# Altium schematic symbol library TQMP2020_tq.SchLib: 1 symbol
Pins are listed as number, name and electrical type; pins without a type are passive.

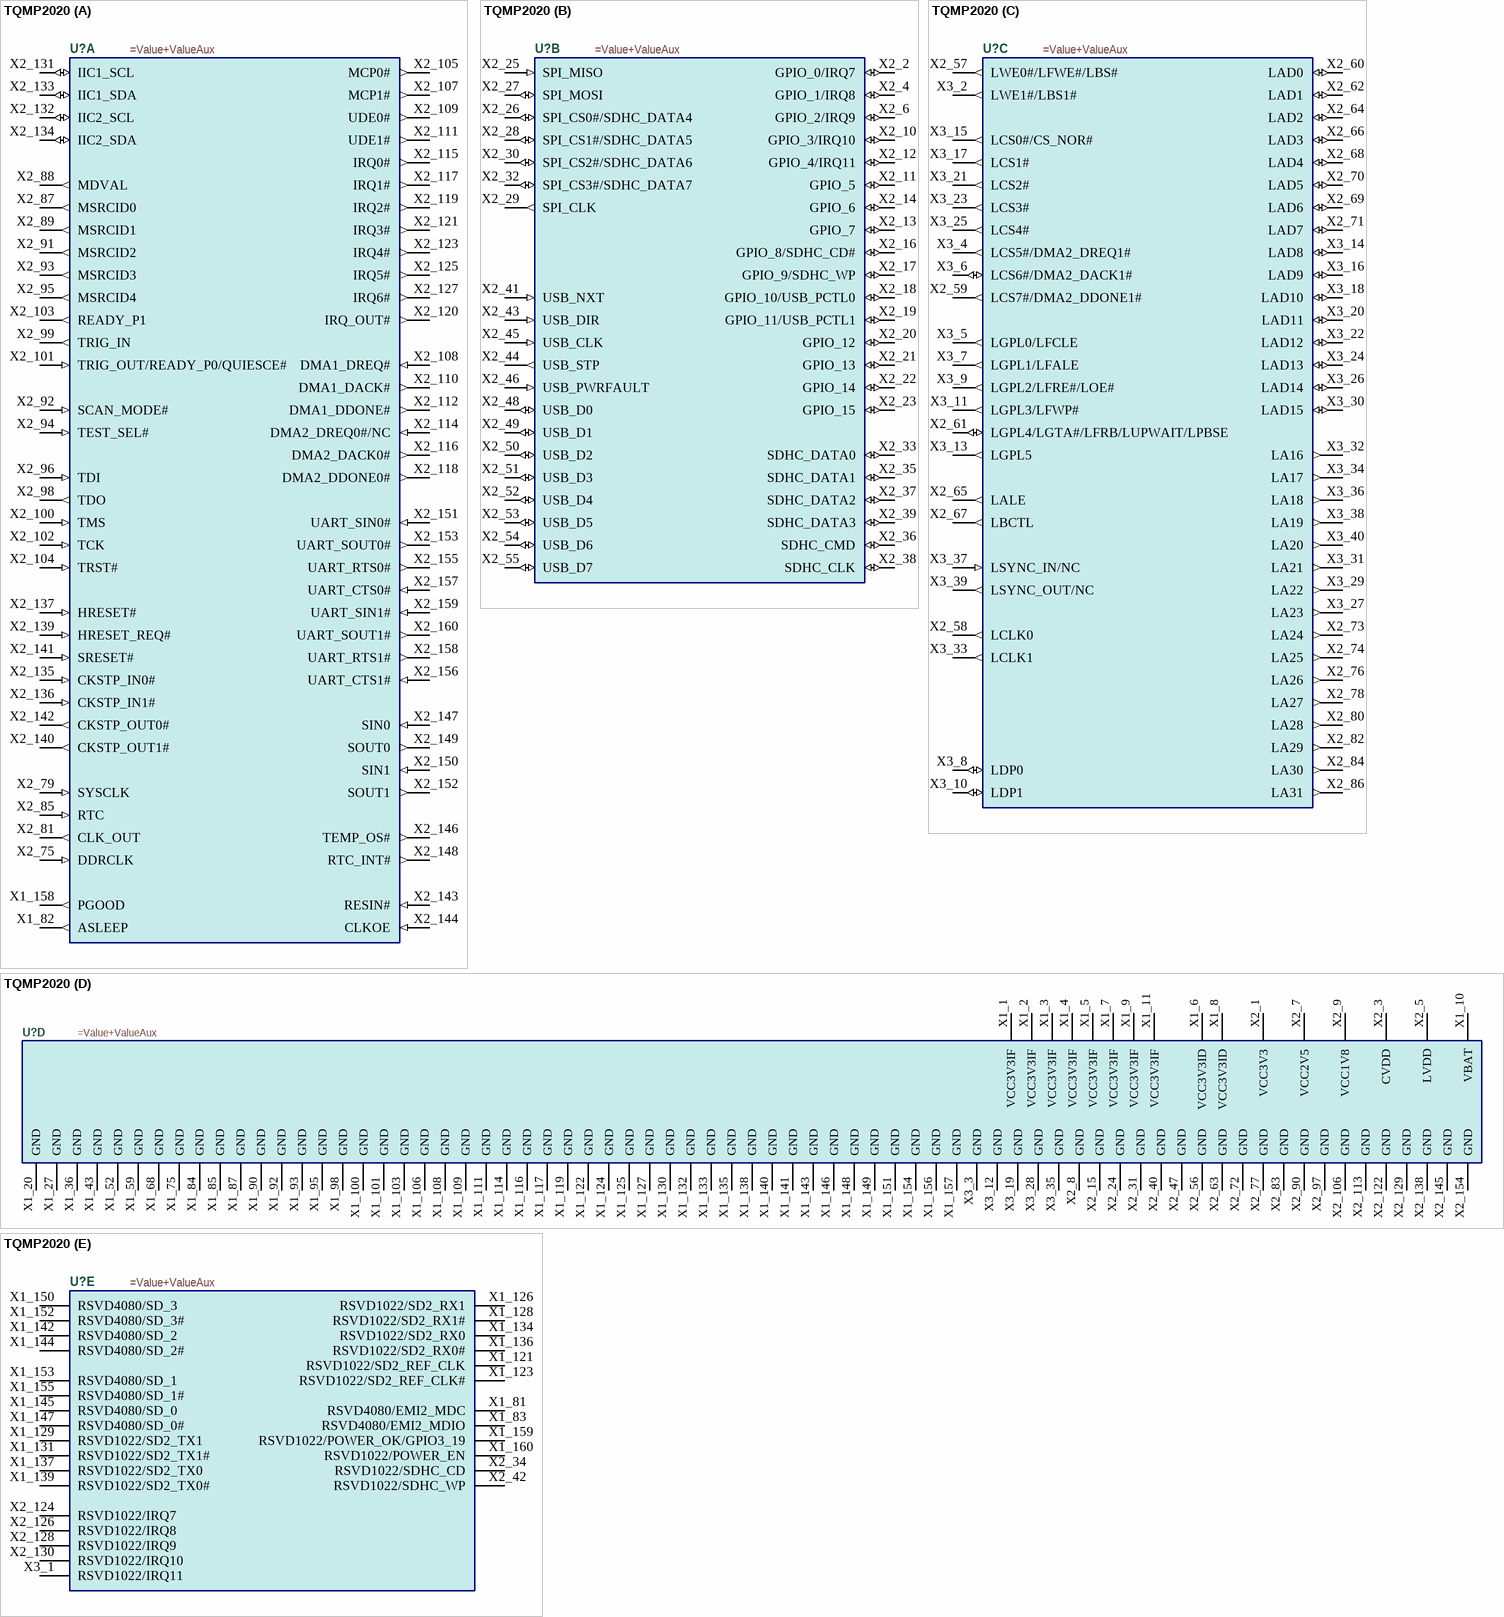
[diagram p0: symbol TQMP2020]

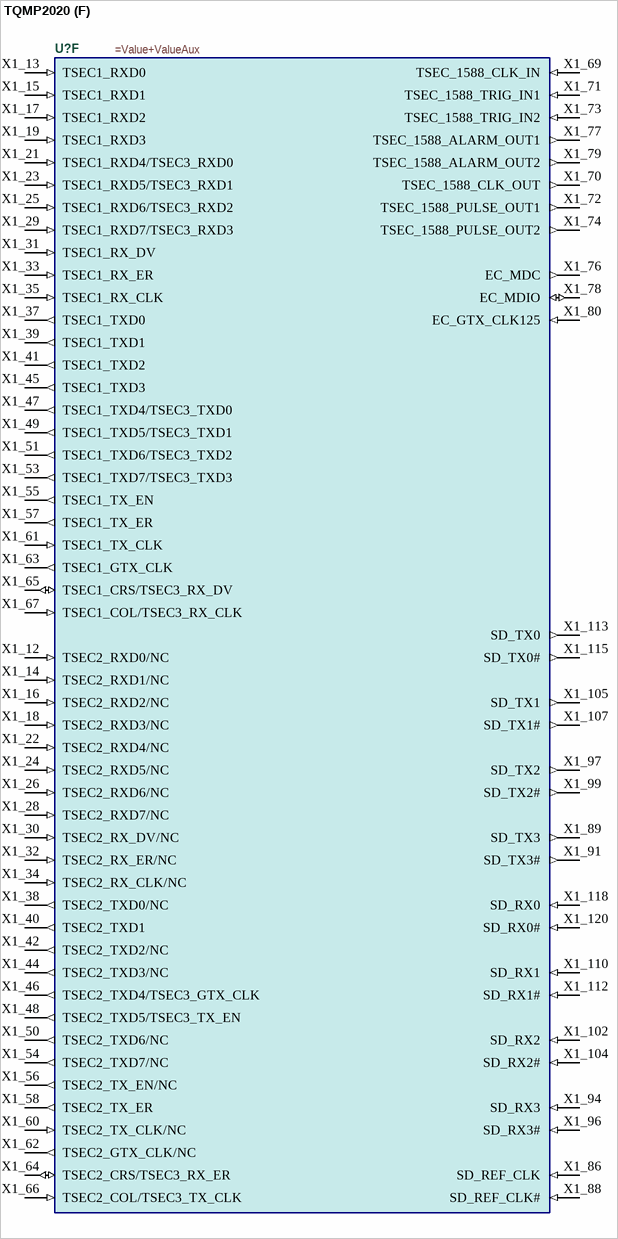
[diagram p1: symbol TQMP2020]

## TQMP2020
designator U?
=Description
part A pins: X1_82 ASLEEP (out), X1_158 PGOOD (out), X2_75 DDRCLK (in), X2_79 SYSCLK (in), X2_81 CLK_OUT (out), X2_85 RTC (in), X2_87 MSRCID0 (out), X2_88 MDVAL (out), X2_89 MSRCID1 (out), X2_91 MSRCID2 (out), X2_92 SCAN_MODE# (in), X2_93 MSRCID3 (out), X2_94 TEST_SEL# (in), X2_95 MSRCID4 (out), X2_96 TDI (in), X2_98 TDO (out), X2_99 TRIG_IN (out), X2_100 TMS (in), X2_101 TRIG_OUT/READY_P0/QUIESCE# (in), X2_102 TCK (in), X2_103 READY_P1 (out), X2_104 TRST# (in), X2_105 MCP0# (out), X2_107 MCP1# (out), X2_108 DMA1_DREQ# (in), X2_109 UDE0# (out), X2_110 DMA1_DACK# (out), X2_111 UDE1# (out), X2_112 DMA1_DDONE# (out), X2_114 DMA2_DREQ0#/NC (in), X2_115 IRQ0# (out), X2_116 DMA2_DACK0# (out), X2_117 IRQ1# (out), X2_118 DMA2_DDONE0# (out), X2_119 IRQ2# (out), X2_120 IRQ_OUT# (out), X2_121 IRQ3# (out), X2_123 IRQ4# (out), X2_125 IRQ5# (out), X2_127 IRQ6# (out), X2_131 IIC1_SCL (io), X2_132 IIC2_SCL (io), X2_133 IIC1_SDA (io), X2_134 IIC2_SDA (io), X2_135 CKSTP_IN0# (in), X2_136 CKSTP_IN1# (in), X2_137 HRESET# (in), X2_139 HRESET_REQ# (in), X2_140 CKSTP_OUT1# (out), X2_141 SRESET# (in), X2_142 CKSTP_OUT0# (out), X2_143 RESIN# (in), X2_144 CLKOE (in), X2_146 TEMP_OS# (out), X2_147 SIN0 (in), X2_148 RTC_INT# (out), X2_149 SOUT0 (out), X2_150 SIN1 (in), X2_151 UART_SIN0# (in), X2_152 SOUT1 (out), X2_153 UART_SOUT0# (out), X2_155 UART_RTS0# (out), X2_156 UART_CTS1# (in), X2_157 UART_CTS0# (in), X2_158 UART_RTS1# (out), X2_159 UART_SIN1# (in), X2_160 UART_SOUT1# (out)
part B pins: X2_2 GPIO_0/IRQ7 (io), X2_4 GPIO_1/IRQ8 (io), X2_6 GPIO_2/IRQ9 (io), X2_10 GPIO_3/IRQ10 (io), X2_11 GPIO_5 (io), X2_12 GPIO_4/IRQ11 (io), X2_13 GPIO_7 (io), X2_14 GPIO_6 (io), X2_16 GPIO_8/SDHC_CD# (io), X2_17 GPIO_9/SDHC_WP (io), X2_18 GPIO_10/USB_PCTL0 (io), X2_19 GPIO_11/USB_PCTL1 (io), X2_20 GPIO_12 (io), X2_21 GPIO_13 (io), X2_22 GPIO_14 (io), X2_23 GPIO_15 (io), X2_25 SPI_MISO (in), X2_26 SPI_CS0#/SDHC_DATA4 (io), X2_27 SPI_MOSI (io), X2_28 SPI_CS1#/SDHC_DATA5 (io), X2_29 SPI_CLK (out), X2_30 SPI_CS2#/SDHC_DATA6 (io), X2_32 SPI_CS3#/SDHC_DATA7 (io), X2_33 SDHC_DATA0 (io), X2_35 SDHC_DATA1 (io), X2_36 SDHC_CMD (io), X2_37 SDHC_DATA2 (io), X2_38 SDHC_CLK (io), X2_39 SDHC_DATA3 (io), X2_41 USB_NXT (in), X2_43 USB_DIR (in), X2_44 USB_STP (out), X2_45 USB_CLK (in), X2_46 USB_PWRFAULT (in), X2_48 USB_D0 (io), X2_49 USB_D1 (io), X2_50 USB_D2 (io), X2_51 USB_D3 (io), X2_52 USB_D4 (io), X2_53 USB_D5 (io), X2_54 USB_D6 (io), X2_55 USB_D7 (io)
part C pins: X2_57 LWE0#/LFWE#/LBS# (out), X2_58 LCLK0 (out), X2_59 LCS7#/DMA2_DDONE1# (out), X2_60 LAD0 (io), X2_61 LGPL4/LGTA#/LFRB/LUPWAIT/LPBSE (io), X2_62 LAD1 (io), X2_64 LAD2 (io), X2_65 LALE (out), X2_66 LAD3 (io), X2_67 LBCTL (out), X2_68 LAD4 (io), X2_69 LAD6 (io), X2_70 LAD5 (io), X2_71 LAD7 (io), X2_73 LA24 (out), X2_74 LA25 (out), X2_76 LA26 (out), X2_78 LA27 (out), X2_80 LA28 (out), X2_82 LA29 (out), X2_84 LA30 (out), X2_86 LA31 (out), X3_2 LWE1#/LBS1# (out), X3_4 LCS5#/DMA2_DREQ1# (out), X3_5 LGPL0/LFCLE (out), X3_6 LCS6#/DMA2_DACK1# (io), X3_7 LGPL1/LFALE (out), X3_8 LDP0 (io), X3_9 LGPL2/LFRE#/LOE# (out), X3_10 LDP1 (io), X3_11 LGPL3/LFWP# (out), X3_13 LGPL5 (out), X3_14 LAD8 (io), X3_15 LCS0#/CS_NOR# (out), X3_16 LAD9 (io), X3_17 LCS1# (out), X3_18 LAD10 (io), X3_20 LAD11 (io), X3_21 LCS2# (out), X3_22 LAD12 (io), X3_23 LCS3# (out), X3_24 LAD13 (io), X3_25 LCS4# (out), X3_26 LAD14 (io), X3_27 LA23 (out), X3_29 LA22 (out), X3_30 LAD15 (io), X3_31 LA21 (out), X3_32 LA16 (out), X3_33 LCLK1 (out), X3_34 LA17 (out), X3_36 LA18 (out), X3_37 LSYNC_IN/NC (in), X3_38 LA19 (out), X3_39 LSYNC_OUT/NC (out), X3_40 LA20 (out)
part D pins: X1_1 VCC3V3IF (power), X1_2 VCC3V3IF (power), X1_3 VCC3V3IF (power), X1_4 VCC3V3IF (power), X1_5 VCC3V3IF (power), X1_6 VCC3V3ID (power), X1_7 VCC3V3IF (power), X1_8 VCC3V3ID (power), X1_9 VCC3V3IF (power), X1_10 VBAT (power), X1_11 VCC3V3IF (power), X1_20 GND (power), X1_27 GND (power), X1_36 GND (power), X1_43 GND (power), X1_52 GND (power), X1_59 GND (power), X1_68 GND (power), X1_75 GND (power), X1_84 GND (power), X1_85 GND (power), X1_87 GND (power), X1_90 GND (power), X1_92 GND (power), X1_93 GND (power), X1_95 GND (power), X1_98 GND (power), X1_100 GND (power), X1_101 GND (power), X1_103 GND (power), X1_106 GND (power), X1_108 GND (power), X1_109 GND (power), X1_111 GND (power), X1_114 GND (power), X1_116 GND (power), X1_117 GND (power), X1_119 GND (power), X1_122 GND (power), X1_124 GND (power), X1_125 GND (power), X1_127 GND (power), X1_130 GND (power), X1_132 GND (power), X1_133 GND (power), X1_135 GND (power), X1_138 GND (power), X1_140 GND (power), X1_141 GND (power), X1_143 GND (power), X1_146 GND (power), X1_148 GND (power), X1_149 GND (power), X1_151 GND (power), X1_154 GND (power), X1_156 GND (power), X1_157 GND (power), X2_1 VCC3V3 (power), X2_3 CVDD (power), X2_5 LVDD (power), X2_7 VCC2V5 (power), X2_8 GND (power), X2_9 VCC1V8 (power), X2_15 GND (power), X2_24 GND (power), X2_31 GND (power), X2_40 GND (power), X2_47 GND (power), X2_56 GND (power), X2_63 GND (power), X2_72 GND (power), X2_77 GND (power), X2_83 GND (power), X2_90 GND (power), X2_97 GND (power), X2_106 GND (power), X2_113 GND (power), X2_122 GND (power), X2_129 GND (power), X2_138 GND (power), X2_145 GND (power), X2_154 GND (power), X3_3 GND (power), X3_12 GND (power), X3_19 GND (power), X3_28 GND (power), X3_35 GND (power)
part E pins: X1_81 RSVD4080/EMI2_MDC, X1_83 RSVD4080/EMI2_MDIO, X1_121 RSVD1022/SD2_REF_CLK, X1_123 RSVD1022/SD2_REF_CLK#, X1_126 RSVD1022/SD2_RX1, X1_128 RSVD1022/SD2_RX1#, X1_129 RSVD1022/SD2_TX1, X1_131 RSVD1022/SD2_TX1#, X1_134 RSVD1022/SD2_RX0, X1_136 RSVD1022/SD2_RX0#, X1_137 RSVD1022/SD2_TX0, X1_139 RSVD1022/SD2_TX0#, X1_142 RSVD4080/SD_2, X1_144 RSVD4080/SD_2#, X1_145 RSVD4080/SD_0, X1_147 RSVD4080/SD_0#, X1_150 RSVD4080/SD_3, X1_152 RSVD4080/SD_3#, X1_153 RSVD4080/SD_1, X1_155 RSVD4080/SD_1#, X1_159 RSVD1022/POWER_OK/GPIO3_19, X1_160 RSVD1022/POWER_EN, X2_34 RSVD1022/SDHC_CD, X2_42 RSVD1022/SDHC_WP, X2_124 RSVD1022/IRQ7, X2_126 RSVD1022/IRQ8, X2_128 RSVD1022/IRQ9, X2_130 RSVD1022/IRQ10, X3_1 RSVD1022/IRQ11
part F pins: X1_12 TSEC2_RXD0/NC (in), X1_13 TSEC1_RXD0 (in), X1_14 TSEC2_RXD1/NC (in), X1_15 TSEC1_RXD1 (in), X1_16 TSEC2_RXD2/NC (in), X1_17 TSEC1_RXD2 (in), X1_18 TSEC2_RXD3/NC (in), X1_19 TSEC1_RXD3 (in), X1_21 TSEC1_RXD4/TSEC3_RXD0 (in), X1_22 TSEC2_RXD4/NC (in), X1_23 TSEC1_RXD5/TSEC3_RXD1 (in), X1_24 TSEC2_RXD5/NC (in), X1_25 TSEC1_RXD6/TSEC3_RXD2 (in), X1_26 TSEC2_RXD6/NC (in), X1_28 TSEC2_RXD7/NC (in), X1_29 TSEC1_RXD7/TSEC3_RXD3 (in), X1_30 TSEC2_RX_DV/NC (in), X1_31 TSEC1_RX_DV (in), X1_32 TSEC2_RX_ER/NC (in), X1_33 TSEC1_RX_ER (in), X1_34 TSEC2_RX_CLK/NC (in), X1_35 TSEC1_RX_CLK (in), X1_37 TSEC1_TXD0 (out), X1_38 TSEC2_TXD0/NC (out), X1_39 TSEC1_TXD1 (out), X1_40 TSEC2_TXD1 (out), X1_41 TSEC1_TXD2 (out), X1_42 TSEC2_TXD2/NC (out), X1_44 TSEC2_TXD3/NC (out), X1_45 TSEC1_TXD3 (out), X1_46 TSEC2_TXD4/TSEC3_GTX_CLK (out), X1_47 TSEC1_TXD4/TSEC3_TXD0 (out), X1_48 TSEC2_TXD5/TSEC3_TX_EN (out), X1_49 TSEC1_TXD5/TSEC3_TXD1 (out), X1_50 TSEC2_TXD6/NC (out), X1_51 TSEC1_TXD6/TSEC3_TXD2 (out), X1_53 TSEC1_TXD7/TSEC3_TXD3 (out), X1_54 TSEC2_TXD7/NC (out), X1_55 TSEC1_TX_EN (out), X1_56 TSEC2_TX_EN/NC (out), X1_57 TSEC1_TX_ER (out), X1_58 TSEC2_TX_ER (out), X1_60 TSEC2_TX_CLK/NC (in), X1_61 TSEC1_TX_CLK (in), X1_62 TSEC2_GTX_CLK/NC (out), X1_63 TSEC1_GTX_CLK (out), X1_64 TSEC2_CRS/TSEC3_RX_ER (io), X1_65 TSEC1_CRS/TSEC3_RX_DV (io), X1_66 TSEC2_COL/TSEC3_TX_CLK (in), X1_67 TSEC1_COL/TSEC3_RX_CLK (in), X1_69 TSEC_1588_CLK_IN (in), X1_70 TSEC_1588_CLK_OUT (out), X1_71 TSEC_1588_TRIG_IN1 (in), X1_72 TSEC_1588_PULSE_OUT1 (out), X1_73 TSEC_1588_TRIG_IN2 (in), X1_74 TSEC_1588_PULSE_OUT2 (out), X1_76 EC_MDC (out), X1_77 TSEC_1588_ALARM_OUT1 (out), X1_78 EC_MDIO (io), X1_79 TSEC_1588_ALARM_OUT2 (out), X1_80 EC_GTX_CLK125 (in), X1_86 SD_REF_CLK (in), X1_88 SD_REF_CLK# (in), X1_89 SD_TX3 (out), X1_91 SD_TX3# (out), X1_94 SD_RX3 (in), X1_96 SD_RX3# (in), X1_97 SD_TX2 (out), X1_99 SD_TX2# (out), X1_102 SD_RX2 (in), X1_104 SD_RX2# (in), X1_105 SD_TX1 (out), X1_107 SD_TX1# (out), X1_110 SD_RX1 (in), X1_112 SD_RX1# (in), X1_113 SD_TX0 (out), X1_115 SD_TX0# (out), X1_118 SD_RX0 (in), X1_120 SD_RX0# (in)